# Altium footprint library SM_32-LQFP.PcbLib: 1 footprints
Each footprint in its own frame and in the unit in brackets; x right, y up, seen from the top. Pads: shape width x height; smd on the part's side, far side on the other; paste and mask are expansions set on the pad; w line width, h text height; cw(c..) or ccw(c..) is an arc to the next point about the centre after c.
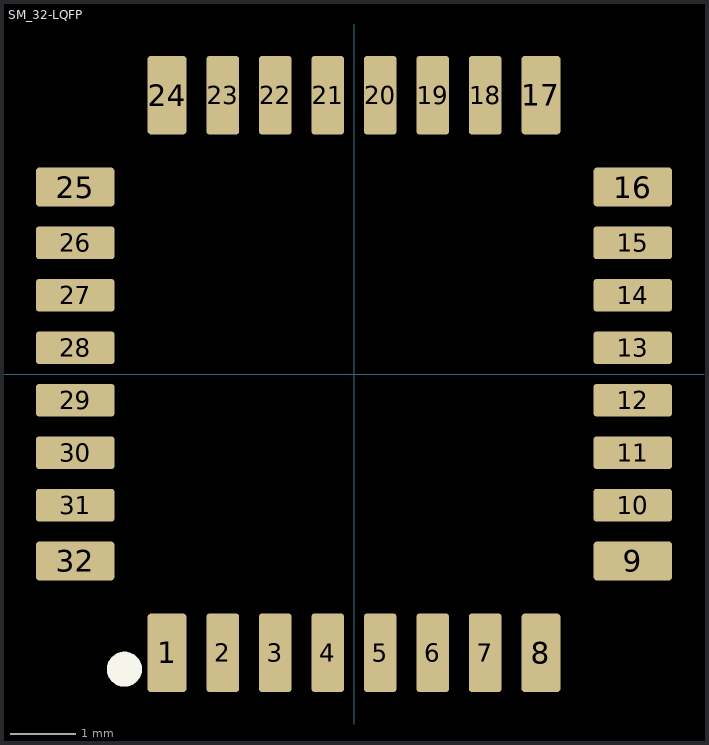
[diagram p0: the footprint, top view; thin cyan lines are the x and y axes]

## SM_32-LQFP [mm] "7mm x 7mm x 1.6mm Body"
height 1.6
pads (32):
  rrect20% 0.6x1.2 smd mask+0.076: 1(-2.85,-4.25) 8(2.85,-4.25) 17(2.85,4.25) 24(-2.85,4.25)
  rrect20% 0.5x1.2 smd mask+0.076: 2(-2,-4.25) 3(-1.2,-4.25) 4(-0.4,-4.25) 5(0.4,-4.25) 6(1.2,-4.25) 7(2,-4.25) 18(2,4.25) 19(1.2,4.25) 20(0.4,4.25) 21(-0.4,4.25) 22(-1.2,4.25) 23(-2,4.25)
  rrect20% 1.2x0.6 smd mask+0.076: 9(4.25,-2.85) 16(4.25,2.85) 25(-4.25,2.85) 32(-4.25,-2.85)
  rrect20% 1.2x0.5 smd mask+0.076: 10(4.25,-2) 11(4.25,-1.2) 12(4.25,-0.4) 13(4.25,0.4) 14(4.25,1.2) 15(4.25,2) 26(-4.25,2) 27(-4.25,1.2) 28(-4.25,0.4) 29(-4.25,-0.4) 30(-4.25,-1.2) 31(-4.25,-2)
Top Overlay:
  circle w0.279: c-3.5,-4.5 r0.127
3D body: height 1.6, standoff 0, extent -3.55,-3.55 3.55,3.55
3D body: height 0.3, standoff 0, extent 3.55,-2.2 4.55,-1.8
3D body: height 0.3, standoff 0, extent 3.55,-1.4 4.55,-1
3D body: height 0.3, standoff 0, extent 3.55,-0.6 4.55,-0.2
3D body: height 0.3, standoff 0, extent 3.55,0.2 4.55,0.6
3D body: height 0.3, standoff 0, extent 3.55,1 4.55,1.4
3D body: height 0.3, standoff 0, extent 3.55,1.8 4.55,2.2
3D body: height 0.3, standoff 0, extent 3.55,-3 4.55,-2.6
3D body: height 0.3, standoff 0, extent 3.55,2.6 4.55,3
3D body: height 0.3, standoff 0, extent -3,3.55 -2.6,4.55
3D body: height 0.3, standoff 0, extent 2.6,3.55 3,4.55
3D body: height 0.3, standoff 0, extent -2.2,3.55 -1.8,4.55
3D body: height 0.3, standoff 0, extent -1.4,3.55 -1,4.55
3D body: height 0.3, standoff 0, extent -0.6,3.55 -0.2,4.55
3D body: height 0.3, standoff 0, extent 0.2,3.55 0.6,4.55
3D body: height 0.3, standoff 0, extent 1,3.55 1.4,4.55
3D body: height 0.3, standoff 0, extent 1.8,3.55 2.2,4.55
3D body: height 0.3, standoff 0, extent -4.55,-3 -3.55,-2.6
3D body: height 0.3, standoff 0, extent -4.55,2.6 -3.55,3
3D body: height 0.3, standoff 0, extent -4.55,-2.2 -3.55,-1.8
3D body: height 0.3, standoff 0, extent -4.55,-1.4 -3.55,-1
3D body: height 0.3, standoff 0, extent -4.55,-0.6 -3.55,-0.2
3D body: height 0.3, standoff 0, extent -4.55,0.2 -3.55,0.6
3D body: height 0.3, standoff 0, extent -4.55,1 -3.55,1.4
3D body: height 0.3, standoff 0, extent -4.55,1.8 -3.55,2.2
3D body: height 0.3, standoff 0, extent 2.6,-4.55 3,-3.55
3D body: height 0.3, standoff 0, extent -3,-4.55 -2.6,-3.55
3D body: height 0.3, standoff 0, extent 1.8,-4.55 2.2,-3.55
3D body: height 0.3, standoff 0, extent 1,-4.55 1.4,-3.55
3D body: height 0.3, standoff 0, extent 0.2,-4.55 0.6,-3.55
3D body: height 0.3, standoff 0, extent -0.6,-4.55 -0.2,-3.55
3D body: height 0.3, standoff 0, extent -1.4,-4.55 -1,-3.55
3D body: height 0.3, standoff 0, extent -2.2,-4.55 -1.8,-3.55